# EAGLE library part PHOENIX_CONTACT_PCB_TERMINAL_BLOCK_8_POS_1771156 (library Nwazet.Go)
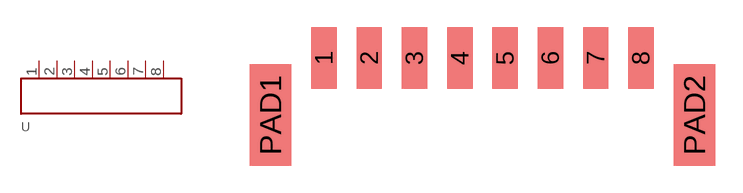
[diagram p14: symbol with the pads of PHOENIX_CONTACT_PCB_TERMINAL_BLOCK_8_POSITIONS_1771156; footprint PHOENIX_CONTACT_PCB_TERMINAL_BLOCK_8_POSITIONS_1771156]

Designator prefix -

## PHOENIX_CONTACT_PCB_TERMINAL_BLOCK_8_POS_1771156  [PHOENIX_CONTACT_PCB_TERMINAL_BLOCK_8_POSITIONS_1771156]
1  P$1
2  P$2
3  P$3
4  P$4
5  P$5
6  P$6
7  P$7
8  P$8

## Footprint PHOENIX_CONTACT_PCB_TERMINAL_BLOCK_8_POSITIONS_1771156 (pad centres in mm)
smd 1.4 x 3.4: 1 -8.75,3.15; 2 -6.25,3.15; 3 -3.75,3.15; 4 -1.25,3.15; 5 1.25,3.15; 6 3.75,3.15; 7 6.25,3.15; 8 8.75,3.15
smd 2.3 x 5.6: PAD1 -11.7,0; PAD2 11.7,0